# Altium footprint library SnapEDApcb.PcbLib: 1 footprints
Each footprint in its own frame and in the unit in brackets; x right, y up, seen from the top. Pads: shape width x height; smd on the part's side, far side on the other; paste and mask are expansions set on the pad; w line width, h text height; cw(c..) or ccw(c..) is an arc to the next point about the centre after c.
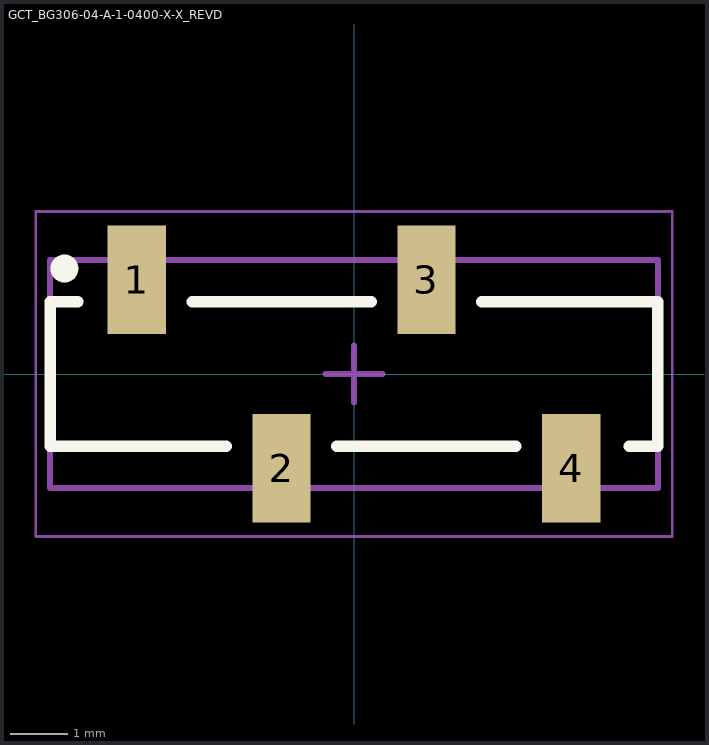
[diagram p0: the footprint, top view; thin cyan lines are the x and y axes]

## GCT_BG306-04-A-1-0400-X-X_REVD [mm]
pads (4):
  rect 1.02x1.9 smd: 1(-3.81,1.65) 2(-1.27,-1.65) 3(1.27,1.65) 4(3.81,-1.65)
Top Overlay:
  circle w0.25: c-5.08,1.85 r0.12
  lines w0.2: -4.84,1.27 -5.33,1.27 -5.33,-1.27 -2.24,-1.27 ; -2.84,1.27 0.3,1.27 ; -0.3,-1.27 2.84,-1.27 ; 2.24,1.27 5.33,1.27 5.33,-1.27 4.83,-1.27
Mechanical 13:
  lines w0.1: -5.33,-2 5.33,-2 5.33,2 -5.33,2 -5.33,-2
Mechanical 15:
  lines w0.05: -5.58,-2.85 -5.58,2.85 5.58,2.85 5.58,-2.85 -5.58,-2.85
  lines w0.1: -0.5,0 0.5,0 ; 0,-0.5 0,0.5